# EAGLE library part TEXAS_P82B96DR (library RGBLedDimmer)
DUAL BIDIRECTIONAL BUS BUFFER
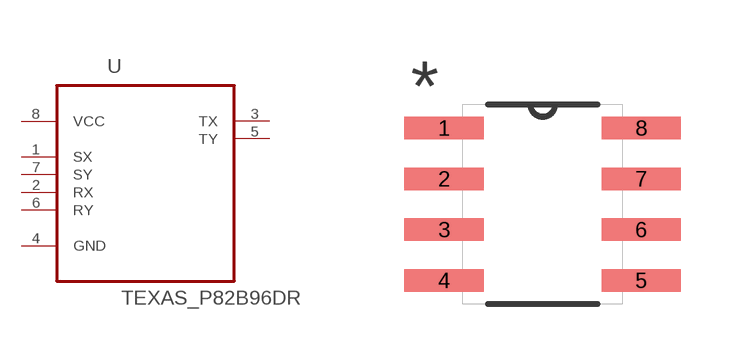
[diagram p2: symbol with the pads of TEXAS_SOIC127P600X175-8N; footprint TEXAS_SOIC127P600X175-8N]

Designator prefix U

## TEXAS_P82B96DR (MPN: P82B96DR; OC_FARNELL: 1576671; OC_NEWARK: 88K6385; PACKAGE: SOIC-8; SUPPLIER: Texas Instruments)  [TEXAS_SOIC127P600X175-8N]
1  SX  in
2  RX  in
3  TX  out
4  GND  pas
5  TY  out
6  RY  in
7  SY  in
8  VCC  pwr

## Footprint TEXAS_SOIC127P600X175-8N (pad centres in mm)
smd 1.981 x 0.559: 1 -2.464,1.905; 2 -2.464,0.635; 3 -2.464,-0.635; 4 -2.464,-1.905; 5 2.464,-1.905; 6 2.464,-0.635; 7 2.464,0.635; 8 2.464,1.905